# Altium schematic symbol library xfmr_3.Schlib: 1 symbol
Pins are listed as number, name and electrical type; pins without a type are passive.

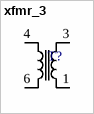
[diagram p0: symbol xfmr_3]

## xfmr_3
designator T?  (value not drawn)
Gate Drive Transformer TDK EP5 1:1
pins: 1, 3, 4, 6